# Altium schematic symbol library DS3231_V858.SchLib: 1 symbol
Pins are listed as number, name and electrical type; pins without a type are passive.

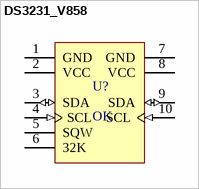
[diagram p0: symbol DS3231_V858]

## DS3231_V858
designator U?, comment OK
DS3231 RTC Module
pins: 1 GND, 2 VCC, 3 SDA (io), 4 SCL (in), 5 SQW, 6 32K, 7 GND, 8 VCC, 9 SDA (io), 10 SCL (in)